# Altium footprint library PcbLib.PcbLib: 20 footprints (part 2 of 2)
Each footprint in its own frame and in the unit in brackets; x right, y up, seen from the top. Pads: shape width x height; smd on the part's side, far side on the other; paste and mask are expansions set on the pad; w line width, h text height; cw(c..) or ccw(c..) is an arc to the next point about the centre after c.
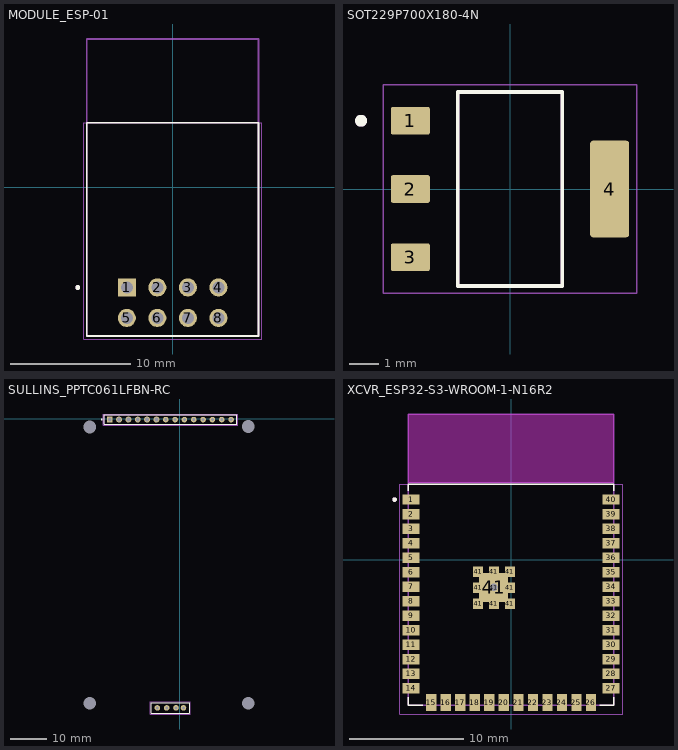
[diagram p1: the footprints below, top view; thin cyan lines are the x and y axes]

## MODULE_ESP-01 [mm]
height 6.5
pads (8):
  rect 1.508x1.508 / inner round 1.508 / far side rect 1.508x1.508 hole 1: 1(-3.81,-8.36)
  round 1.508 hole 1: 2(-1.27,-8.36) 3(1.27,-8.36) 4(3.81,-8.36) 5(-3.81,-10.9) 6(-1.27,-10.9) 7(1.27,-10.9) 8(3.81,-10.9)
Top Overlay:
  circle w0.2: c-7.9,-8.36 r0.1
  lines w0.127: -7.15,-12.4 7.15,-12.4 7.15,5.334 -7.15,5.334 -7.15,-12.4
Mechanical 13:
  circle w0.2: c-7.9,-8.36 r0.1
  lines w0.127: -7.15,-12.4 -7.15,12.319 7.15,12.319 7.15,-12.4 -7.15,-12.4
Mechanical 15:
  lines w0.05: -7.4,-12.65 -7.4,5.334 7.4,5.334 7.4,-12.65 -7.4,-12.65
3D body "step_temp.STEP": height 6.5, standoff -6, extent -7.2,-12.35 7.2,12.35

## SOT229P700X180-4N [mm]
height 1.8
pads (4):
  rrect15% 1.31x0.93 smd: 1(-3.345,2.29) 2(-3.345,0) 3(-3.345,-2.29)
  rrect15% 1.31x3.24 smd: 4(3.345,0)
Top Overlay:
  circle w0.2: c-5,2.29 r0.1
  lines w0.127: -1.753,-3.253 1.753,-3.253 1.753,3.253 -1.753,3.253 -1.753,-3.253
Mechanical 13:
  circle w0.2: c-5,2.29 r0.1
  lines w0.127: -1.753,-3.253 1.753,-3.253 1.753,3.253 -1.753,3.253 -1.753,-3.253
Mechanical 15:
  lines w0.05: -4.25,-3.502 -4.25,3.502 4.25,3.502 4.25,-3.502 -4.25,-3.502
3D body "step_temp.STEP": height 1.8, standoff 0, extent -3.499,-3.251 3.499,3.251

## SULLINS_PPTC061LFBN-RC [mil]
height 334.65
pads (22):
  rect 63.19x63.19 / inner round 63.19 / far side rect 63.19x63.19 hole 42.13: 1(-750,-10)
  round 63.19 hole 42.13: 2(-650,-10) 3(-550,-10) 4(-450,-10) 5(-350,-10) 6(-250,-10)
  round 60 hole 30: 7(-150,-10) 8(-50,-10) 9(50,-10) 10(150,-10) 11(250,-10) 12(350,-10) 13(450,-10) 14(550,-10) ""(-240,-3100) ""(-140,-3100) ""(-40,-3100) ""(40,-3100)
  round 0 hole 137.8 unplated: ""(-965,-3050) ""(-965,-90) ""(735,-3050) ""(735,-85)
Top Overlay:
  circle w7.87: c-834.65,-10 r3.94
  lines w5: -809.84,-60 -809.84,40 610,40 610,-60 -809.84,-60
  lines w10: 100,-3155 -305,-3155 -305,-3045 105,-3045 105,-3155
Mechanical 13:
  lines w5: -809.84,-60 -809.84,40 610,40 610,-60 -809.84,-60
Mechanical 15:
  lines w1.97: -819.68,-69.84 620,-69.84 620,49.84 -819.68,49.84 -819.68,-69.84
  lines w4: -315,-3165 115,-3165 115,-3035 -315,-3035 -315,-3165
3D body "step_temp.STEP": height 335, standoff -126, extent -810,-60 -190,40
3D body "step_temp.STEP": height 335, standoff -126, extent -10,-60 610,40
3D body "step_temp.STEP": height 335, standoff -126, extent -210,-60 410,40
3D body "1x4.STEP": height 335, standoff -359.49, extent -300,-3150 100,-3050
3D body "TFT LCD 2.8inch ILI9341.step": height 649.61, standoff 102.36, extent -1083.9,-3180 885,40.91

## XCVR_ESP32-S3-WROOM-1-N16R2 [mm]
height 3.25
pads (50):
  rect 1.5x0.9 smd: 1(-8.75,5.26) 2(-8.75,3.99) 3(-8.75,2.72) 4(-8.75,1.45) 5(-8.75,0.18) 6(-8.75,-1.09) 7(-8.75,-2.36) 8(-8.75,-3.63) 9(-8.75,-4.9) 10(-8.75,-6.17) 11(-8.75,-7.44) 12(-8.75,-8.71) 13(-8.75,-9.98) 14(-8.75,-11.25) 27(8.75,-11.25) 28(8.75,-9.98) 29(8.75,-8.71) 30(8.75,-7.44) 31(8.75,-6.17) 32(8.75,-4.9) 33(8.75,-3.63) 34(8.75,-2.36) 35(8.75,-1.09) 36(8.75,0.18) 37(8.75,1.45) 38(8.75,2.72) 39(8.75,3.99) 40(8.75,5.26)
  rect 0.9x1.5 smd: 15(-6.985,-12.5) 16(-5.715,-12.5) 17(-4.445,-12.5) 18(-3.175,-12.5) 19(-1.905,-12.5) 20(-0.635,-12.5) 21(0.635,-12.5) 22(1.905,-12.5) 23(3.175,-12.5) 24(4.445,-12.5) 25(5.715,-12.5) 26(6.985,-12.5)
  rect 0.9x0.9 smd: 41(-2.9,-3.86) 41(-2.9,-2.46) 41(-2.9,-1.06) 41(-1.5,-3.86) 41(-1.5,-2.46) 41(-1.5,-1.06) 41(-0.1,-3.86) 41(-0.1,-2.46) 41(-0.1,-1.06)
  rect 2.54x2.54 hole 0.635: 41(-1.524,-2.413)
Top Overlay:
  circle w0.2: c-10.2,5.26 r0.1
  lines w0.127: -9,-12.02 -9,-12.75 -7.755,-12.75 ; -9,6.03 -9,6.604 9,6.604 9,6.03 ; 7.755,-12.75 9,-12.75 9,-12.02
Keep-Out Layer:
  region: 9,6.75 -9,6.75 -9,12.75 9,12.75
  region: 9,6.75 -9,6.75 -9,12.75 9,12.75
Mechanical 13:
  circle w0.2: c-10.2,5.26 r0.1
  lines w0.127: -9,6.75 -9,-12.75 9,-12.75 9,6.75 ; -9,6.75 -9,12.75 9,12.75 9,6.75 ; -9,6.75 9,6.75
  text "ANTENNA" at -4.5,9.5 h1.27
Mechanical 15:
  lines w0.05: -9.75,-13.5 -9.75,6.604 9.75,6.604 9.75,-13.5 -9.75,-13.5
3D body "step_temp.STEP": height 3.25, standoff 0, extent -9,-12.877 9,12.623